# EAGLE library part RP2040 (library RP2040)
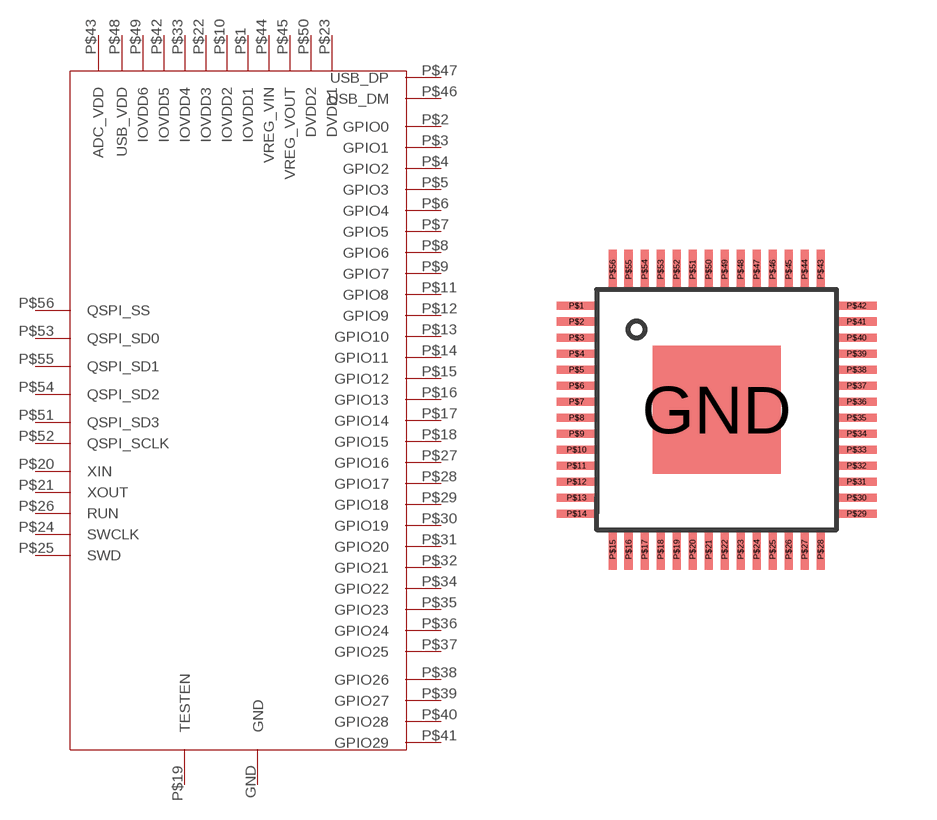
[diagram p0: symbol with the pads of RP2040; footprint RP2040]

Designator prefix -

## RP2040  [RP2040]
GND  GND
P$1  IOVDD1
P$2  GPIO0
P$3  GPIO1
P$4  GPIO2
P$5  GPIO3
P$6  GPIO4
P$7  GPIO5
P$8  GPIO6
P$9  GPIO7
P$10  IOVDD2
P$11  GPIO8
P$12  GPIO9
P$13  GPIO10
P$14  GPIO11
P$15  GPIO12
P$16  GPIO13
P$17  GPIO14
P$18  GPIO15
P$19  TESTEN
P$20  XIN
P$21  XOUT
P$22  IOVDD3
P$23  DVDD1
P$24  SWCLK
P$25  SWD
P$26  RUN
P$27  GPIO16
P$28  GPIO17
P$29  GPIO18
P$30  GPIO19
P$31  GPIO20
P$32  GPIO21
P$33  IOVDD4
P$34  GPIO22
P$35  GPIO23
P$36  GPIO24
P$37  GPIO25
P$38  GPIO26
P$39  GPIO27
P$40  GPIO28
P$41  GPIO29
P$42  IOVDD5
P$43  ADC_VDD
P$44  VREG_VIN
P$45  VREG_VOUT
P$46  USB_DM
P$47  USB_DP
P$48  USB_VDD
P$49  IOVDD6
P$50  DVDD2
P$51  QSPI_SD3
P$52  QSPI_SCLK
P$53  QSPI_SD0
P$54  QSPI_SD2
P$55  QSPI_SD1
P$56  QSPI_SS

## Footprint RP2040 (pad centres in mm)
smd 3.2 x 3.2: GND 0,0
smd 1 x 0.2: P$1 -3.5,2.6; P$2 -3.5,2.2; P$3 -3.5,1.8; P$4 -3.5,1.4; P$5 -3.5,1; P$6 -3.5,0.6; P$7 -3.5,0.2; P$8 -3.5,-0.2; P$9 -3.5,-0.6; P$10 -3.5,-1; P$11 -3.5,-1.4; P$12 -3.5,-1.8; P$13 -3.5,-2.2; P$14 -3.5,-2.6; P$29 3.5,-2.6; P$30 3.5,-2.2; P$31 3.5,-1.8; P$32 3.5,-1.4; P$33 3.5,-1; P$34 3.5,-0.6; P$35 3.5,-0.2; P$36 3.5,0.2; P$37 3.5,0.6; P$38 3.5,1; P$39 3.5,1.4; P$40 3.5,1.8; P$41 3.5,2.2; P$42 3.5,2.6
smd 0.2 x 1: P$15 -2.6,-3.5; P$16 -2.2,-3.5; P$17 -1.8,-3.5; P$18 -1.4,-3.5; P$19 -1,-3.5; P$20 -0.6,-3.5; P$21 -0.2,-3.5; P$22 0.2,-3.5; P$23 0.6,-3.5; P$24 1,-3.5; P$25 1.4,-3.5; P$26 1.8,-3.5; P$27 2.2,-3.5; P$28 2.6,-3.5; P$43 2.6,3.5; P$44 2.2,3.5; P$45 1.8,3.5; P$46 1.4,3.5; P$47 1,3.5; P$48 0.6,3.5; P$49 0.2,3.5; P$50 -0.2,3.5; P$51 -0.6,3.5; P$52 -1,3.5; P$53 -1.4,3.5; P$54 -1.8,3.5; P$55 -2.2,3.5; P$56 -2.6,3.5